# Altium footprint library 51.PcbLib: 17 footprints (part 1 of 2)
Each footprint in its own frame and in the unit in brackets; x right, y up, seen from the top. Pads: shape width x height; smd on the part's side, far side on the other; paste and mask are expansions set on the pad; w line width, h text height; cw(c..) or ccw(c..) is an arc to the next point about the centre after c.
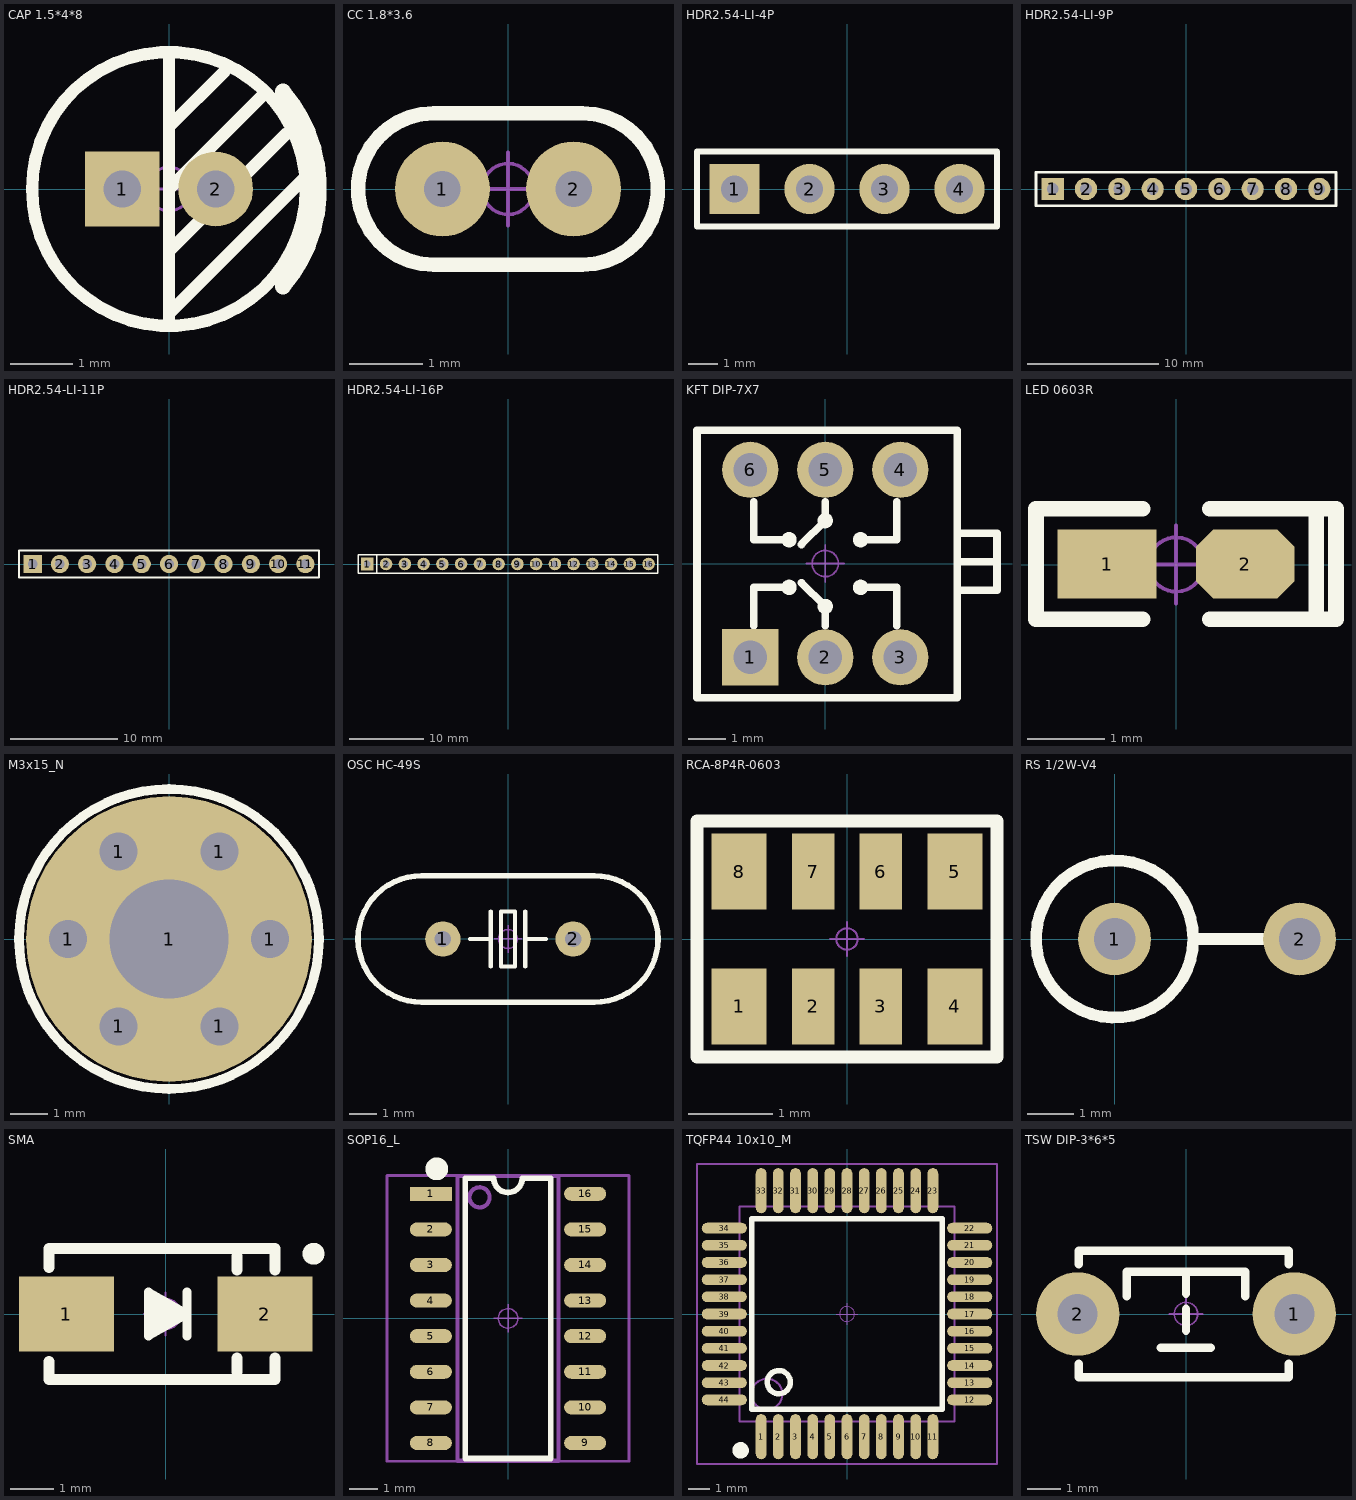
[diagram p0: the footprints below, top view; thin cyan lines are the x and y axes]

## CAP 1.5*4*8 [mm] "脚距1.5mm直径4mm高度8mm                    淘宝ID:黄晶宝石"
pads (2):
  rect 1.2x1.2 hole 0.6: 1(-0.75,0)
  round 1.2 hole 0.6: 2(0.75,0)
Top Overlay:
  circle w0.2: c0,0 r2.2
  lines w0.2: 0,-2.159 0,-2 ; 0,-1 1.897,0.897 ; 0,0 1.524,1.524 ; 0,1 0.897,1.897 ; 0,2.159 0,-2 ; 2.206,0.207 0,-2
  lines w0.254: 1.83,-1.568 ccw(c0,0) 1.83,1.568
Mechanical 15:
  circle w0.05: c0,0 r0.35
  lines w0.05: -0.5,0 0.5,0 ; 0,-0.5 0,0.5
3D body "CAP 1.5X4X8.STEP": height 8.04, standoff -3.46, extent -2,-1.999 2.02,1.999

## CC 1.8*3.6 [mm] "脚距1.8mm直径3.6mm      淘宝ID:黄晶宝石"
pads (2):
  round 1.3 hole 0.5: 1(-0.9,0) 2(0.9,0)
Top Overlay:
  lines w0.2: -1.016,-1.041 cw(c-1.016,0) -1.016,1.041 1.016,1.041 cw(c1.016,0) 1.016,-1.041 -1.016,-1.041
Mechanical 15:
  circle w0.05: c0,0 r0.35
  lines w0.05: -0.5,0 0.5,0 ; 0,-0.5 0,0.5
3D body "CC 1.8X3.6.STEP": height 3.6, standoff -3.5, extent -1.8,-0.798 1.8,0.796

## HDR2.54-LI-4P [mm] "排针，4脚"
pads (4):
  rect 1.7x1.7 hole 0.9: 1(-3.81,0)
  round 1.7 hole 0.9: 2(-1.27,0) 3(1.27,0) 4(3.81,0)
Top Overlay:
  lines w0.2: -5.08,-1.27 -5.08,1.27 5.08,1.27 5.08,-1.27 -5.08,-1.27
3D body "HDR2.54-1P.STEP": height 8.5, standoff -3, extent -5.08,-1.27 -2.54,1.27
3D body "HDR2.54-1P.STEP": height 8.5, standoff -3, extent -2.54,-1.27 0,1.27
3D body "HDR2.54-1P.STEP": height 8.5, standoff -3, extent 0,-1.27 2.54,1.27
3D body "HDR2.54-1P.STEP": height 8.5, standoff -3, extent 2.54,-1.27 5.08,1.27

## HDR2.54-LI-9P [mm] "排针，9脚"
pads (9):
  rect 1.7x1.7 hole 0.9: 1(-10.16,0)
  round 1.7 hole 0.9: 2(-7.62,0) 3(-5.08,0) 4(-2.54,0) 5(0,0) 6(2.54,0) 7(5.08,0) 8(7.62,0) 9(10.16,0)
Top Overlay:
  lines w0.2: -11.43,-1.27 -11.43,1.27 11.43,1.27 11.43,-1.27 -11.43,-1.27
3D body "HDR2.54-1P.STEP": height 8.5, standoff -3, extent -8.89,-1.27 -6.35,1.27
3D body "HDR2.54-1P.STEP": height 8.5, standoff -3, extent -11.43,-1.27 -8.89,1.27
3D body "HDR2.54-1P.STEP": height 8.5, standoff -3, extent -3.81,-1.27 -1.27,1.27
3D body "HDR2.54-1P.STEP": height 8.5, standoff -3, extent -6.35,-1.27 -3.81,1.27
3D body "HDR2.54-1P.STEP": height 8.5, standoff -3, extent -1.27,-1.27 1.27,1.27
3D body "HDR2.54-1P.STEP": height 8.5, standoff -3, extent 3.81,-1.27 6.35,1.27
3D body "HDR2.54-1P.STEP": height 8.5, standoff -3, extent 1.27,-1.27 3.81,1.27
3D body "HDR2.54-1P.STEP": height 8.5, standoff -3, extent 8.89,-1.27 11.43,1.27
3D body "HDR2.54-1P.STEP": height 8.5, standoff -3, extent 6.35,-1.27 8.89,1.27

## HDR2.54-LI-11P [mm] "排针"
pads (11):
  rect 1.7x1.7 hole 0.9: 1(-12.7,0)
  round 1.7 hole 0.9: 2(-10.16,0) 3(-7.62,0) 4(-5.08,0) 5(-2.54,0) 6(0,0) 7(2.54,0) 8(5.08,0) 9(7.62,0) 10(10.16,0) 11(12.7,0)
Top Overlay:
  lines w0.2: -13.97,-1.27 -13.97,1.27 13.97,1.27 13.97,-1.27 -13.97,-1.27
3D body "HDR2.54-1P.STEP": height 8.5, standoff -3, extent 11.43,-1.27 13.97,1.27
3D body "HDR2.54-1P.STEP": height 8.5, standoff -3, extent 8.89,-1.27 11.43,1.27
3D body "HDR2.54-1P.STEP": height 8.5, standoff -3, extent 3.81,-1.27 6.35,1.27
3D body "HDR2.54-1P.STEP": height 8.5, standoff -3, extent 6.35,-1.27 8.89,1.27
3D body "HDR2.54-1P.STEP": height 8.5, standoff -3, extent -1.27,-1.27 1.27,1.27
3D body "HDR2.54-1P.STEP": height 8.5, standoff -3, extent 1.27,-1.27 3.81,1.27
3D body "HDR2.54-1P.STEP": height 8.5, standoff -3, extent -3.81,-1.27 -1.27,1.27
3D body "HDR2.54-1P.STEP": height 8.5, standoff -3, extent -8.89,-1.27 -6.35,1.27
3D body "HDR2.54-1P.STEP": height 8.5, standoff -3, extent -6.35,-1.27 -3.81,1.27
3D body "HDR2.54-1P.STEP": height 8.5, standoff -3, extent -13.97,-1.27 -11.43,1.27
3D body "HDR2.54-1P.STEP": height 8.5, standoff -3, extent -11.43,-1.27 -8.89,1.27

## HDR2.54-LI-16P [mm] "排针，16脚"
pads (16):
  rect 1.7x1.7 hole 0.9: 1(-19.05,0)
  round 1.7 hole 0.9: 2(-16.51,0) 3(-13.97,0) 4(-11.43,0) 5(-8.89,0) 6(-6.35,0) 7(-3.81,0) 8(-1.27,0) 9(1.27,0) 10(3.81,0) 11(6.35,0) 12(8.89,0) 13(11.43,0) 14(13.97,0) 15(16.51,0) 16(19.05,0)
Top Overlay:
  lines w0.2: -17.8,-1.25 -17.8,1.25 ; -20.32,-1.27 -20.32,1.27 -18.415,1.27 20.32,1.27 20.32,-1.27 -20.32,-1.27
3D body "HDR2.54-1P.STEP": height 8.5, standoff -3, extent -15.24,-1.27 -12.7,1.27
3D body "HDR2.54-1P.STEP": height 8.5, standoff -3, extent -17.78,-1.27 -15.24,1.27
3D body "HDR2.54-1P.STEP": height 8.5, standoff -3, extent -10.16,-1.27 -7.62,1.27
3D body "HDR2.54-1P.STEP": height 8.5, standoff -3, extent -12.7,-1.27 -10.16,1.27
3D body "HDR2.54-1P.STEP": height 8.5, standoff -3, extent -7.62,-1.27 -5.08,1.27
3D body "HDR2.54-1P.STEP": height 8.5, standoff -3, extent -2.54,-1.27 0,1.27
3D body "HDR2.54-1P.STEP": height 8.5, standoff -3, extent -5.08,-1.27 -2.54,1.27
3D body "HDR2.54-1P.STEP": height 8.5, standoff -3, extent 2.54,-1.27 5.08,1.27
3D body "HDR2.54-1P.STEP": height 8.5, standoff -3, extent 0,-1.27 2.54,1.27
3D body "HDR2.54-1P.STEP": height 8.5, standoff -3, extent 5.08,-1.27 7.62,1.27
3D body "HDR2.54-1P.STEP": height 8.5, standoff -3, extent 10.16,-1.27 12.7,1.27
3D body "HDR2.54-1P.STEP": height 8.5, standoff -3, extent 7.62,-1.27 10.16,1.27
3D body "HDR2.54-1P.STEP": height 8.5, standoff -3, extent 15.24,-1.27 17.78,1.27
3D body "HDR2.54-1P.STEP": height 8.5, standoff -3, extent 12.7,-1.27 15.24,1.27
3D body "HDR2.54-1P.STEP": height 8.5, standoff -3, extent 17.78,-1.27 20.32,1.27
3D body "HDR2.54-1P.STEP": height 8.5, standoff -3, extent -20.32,-1.27 -17.78,1.27

## KFT DIP-7X7 [mm] "自锁开关，规格：7*7mm      淘宝ID:黄晶宝石"
pads (6):
  rect 1.5x1.5 hole 0.9: 1(-2,-2.5)
  round 1.5 hole 0.9: 2(0,-2.5) 3(2,-2.5) 4(2,2.5) 5(0,2.5) 6(-2,2.5)
Top Overlay:
  circle w0.254: c0.94,-0.635 r0.076
  circle w0.254: c-0.965,-0.635 r0.076
  circle w0.254: c0,-1.143 r0.076
  circle w0.254: c0,1.143 r0.076
  circle w0.254: c-0.965,0.635 r0.076
  circle w0.254: c0.94,0.635 r0.076
  lines w0.203: -1.905,-1.651 -1.905,-0.635 -0.889,-0.635 ; -1.905,1.651 -1.905,0.635 -0.889,0.635 ; -0.635,-0.508 0,-1.143 0,-1.651 ; -0.635,0.508 0,1.143 0,1.651 ; 1.016,-0.635 1.905,-0.635 1.905,-1.651 ; 1.016,0.635 1.905,0.635 1.905,1.651 ; 3.514,0.05 4.579,0.05 ; 3.563,-0.712 4.579,-0.712 4.579,0.812 3.563,0.812 ; -3.42,-3.581 3.514,-3.581 3.514,2.54 3.514,3.556 -3.42,3.556 -3.42,-3.581
Mechanical 15:
  circle w0.05: c0,0 r0.35
  lines w0.05: -0.5,0 0.5,0 ; 0,-0.5 0,0.5
3D body "SLSW 7x7.STEP": height 11.2, standoff -3.2, extent -3.5,-3.5 3.5,3.5

## LED 0603R [mil] "红色0603LED                                           淘宝ID:黄晶宝石"
pads (2):
  rect 50x35 smd: 1(-35,0.26)
  oct 50x35 smd: 2(35,0.26)
Top Overlay:
  lines w8: -17,-27.74 -71,-27.74 -71,-25.74 -71,28.26 -70,28.26 -17,28.26 ; 17,-27.74 70,-27.74 ; 17,28.26 71,28.26 81,28.26 81,-27.74 71,-27.74 71,26.26
Mechanical 15:
  circle w1.97: c0,0 r13.78
  lines w1.97: -19.69,0 19.68,0 ; 0,-19.69 0,19.68
3D body "LED 0603-R.STEP": height 18.36, standoff -0.16, extent -31.5,-15.79 31.5,15.79

## M3x15_N [mil] "M3铜柱，长：15mm"
pads (7):
  round 40 hole 40: 1(-106,0) 1(-53,-91.8) 1(-53,91.8) 1(53,-91.8) 1(53,91.8) 1(106,0)
  round 300 hole 125: 1(0,0)
Top Overlay:
  circle w10: c0,0 r157.48
3D body "M3x15.STEP": height 592.53, standoff 1.96, extent -106.22,-92.52 106.22,92.52

## OSC HC-49S [mm] "封装库来自淘宝卖家 ID：黄晶宝石"
pads (2):
  round 1.3 hole 0.6: 1(-2.4,0) 2(2.4,0)
Top Overlay:
  lines w0.152: -1.397,0 -0.635,0 ; -0.635,-1.016 -0.635,1.016 ; 0.635,-1.016 0.635,1.016 ; 0.635,0 1.397,0 ; -0.254,-1.016 0.254,-1.016 0.254,1.016 -0.254,1.016 -0.254,-1.016
  lines w0.203: -3.175,2.325 ccw(c-3.2,0) -3.173,-2.325 3.175,-2.325 ccw(c3.2,0) 3.173,2.325 -3.175,2.325
Mechanical 15:
  circle w0.05: c0,0 r0.35
  lines w0.05: -0.5,0 0.5,0 ; 0,-0.5 0,0.5
3D body "OSC HC-49S.STEP": height 4.13, standoff -3.45, extent -5.525,-2.325 5.525,2.325

## RCA-8P4R-0603 [mm] "3.2mm*1.6mm*0.6mm(长*宽*厚)"
pads (8):
  rect 0.65x0.9 smd: 1(-1.28,-0.8) 4(1.28,-0.8) 5(1.28,0.8) 8(-1.28,0.8)
  rect 0.5x0.9 smd: 2(-0.4,-0.8) 3(0.4,-0.8) 6(0.4,0.8) 7(-0.4,0.8)
Top Overlay:
  lines w0.152: -1.778,-1.397 -1.778,1.397 1.778,1.397 1.778,-1.397 -1.778,-1.397
Mechanical 15:
  circle w0.025: c0,0 r0.127
  lines w0.025: -0.2,0 0.2,0 ; 0,-0.2 0,0.2
3D body "RCA-8P4R-0603.STEP": height 0.6, standoff 0, extent -1.6,-0.8 1.6,0.8

## RS 1/2W-V4 [mil] "直插色环电阻，脚距4mm，直径3mm"
pads (2):
  round 62 hole 35.43: 1(0,0) 2(157.48,0)
Top Overlay:
  circle w10: c0,0 r66.93
  lines w10: 66.93,0 133.86,0
Mechanical 15:
  circle w1.97: c0,0 r13.78
  lines w1.97: -19.69,0 19.68,0 ; 0,-19.69 0,19.68
3D body "RS 1-2W-V4.STEP": height 423.17, standoff -137.89, extent -59.44,-59.44 167.33,59.46

## SMA [mm] "4.5x2.6*2.2mm（长宽高，不包括引脚）"
height 2.54
pads (2):
  rect 2.2x1.75 smd: 1(-2.3,0) 2(2.3,0)
Top Overlay:
  circle w0.254: c3.429,1.397 r0.127
  lines w0.203: 0.494,-0.508 0.494,0.508 ; -0.395,-0.508 -0.395,0.508 0.494,0 -0.395,-0.508
  lines w0.254: -2.7,-1.105 -2.7,-1.524 2.54,-1.524 2.54,-1.016 ; -2.7,1.08 -2.7,1.524 2.54,1.524 2.54,1.016 ; -0.33,0.305 0.305,0 -0.254,-0.305 -0.254,0.051 0.023,0 ; 1.651,-1.35 1.651,-1.016 ; 1.651,1.016 1.651,1.35
Mechanical 15:
  circle w0.05: c0,0 r0.35
  lines w0.05: -0.5,0 0.5,0 ; 0,-0.5 0,0.5
3D body "SMA.STEP": height 2.15, standoff 0.04, extent -2.528,-1.3 2.575,1.3

## SOP16_L [mm] "10.3*6.2*1.8mm（长宽高）封装库来自淘宝卖家 ID：黄晶宝石"
height 1.75
pads (16):
  rect 1.5x0.5 smd: 1(-2.752,4.445)
  oval 1.5x0.5 smd: 2(-2.752,3.175) 3(-2.752,1.905) 4(-2.752,0.635) 5(-2.752,-0.635) 6(-2.752,-1.905) 7(-2.752,-3.175) 8(-2.752,-4.445) 9(2.752,-4.445) 10(2.752,-3.175) 11(2.752,-1.905) 12(2.752,-0.635) 13(2.752,0.635) 14(2.752,1.905) 15(2.752,3.175) 16(2.752,4.445)
Top Overlay:
  circle w0.5: c-2.54,5.334 r0.155
  lines w0.2: -1.524,5 -1.524,-5 1.524,-5 1.524,5
  lines w0.203: -1.524,5 -0.508,5 ccw(c0,5) 0,4.492 ccw(c0,5) 0.508,5 1.524,5
Mechanical 13:
  circle w0.15: c-1.016,4.318 r0.359
  lines w0.15: -1.8,-5.08 1.8,-5.08 1.8,5.08 -1.8,5.08 -1.8,-5.08
Mechanical 15:
  circle w0.05: c0,0 r0.35
  lines w0.05: -0.5,0 0.5,0 ; 0,-0.5 0,0.5
  lines w0.1: -4.318,-5.1 -4.318,5.1 4.318,5.1 4.318,-5.1 -4.318,-5.1
3D body "SOP16.STEP": height 1.9, standoff 0, extent -3.003,-5 3.003,5

## TQFP44 10x10_M [mm] "44脚，体宽：10x10mm, 脚距：0.8mm"
pads (44):
  oval 0.5x2.1 smd: 1(-4,-5.715) 2(-3.2,-5.715) 3(-2.4,-5.715) 4(-1.6,-5.715) 5(-0.8,-5.715) 6(0,-5.715) 7(0.8,-5.715) 8(1.6,-5.715) 9(2.4,-5.715) 10(3.2,-5.715) 11(4,-5.715) 23(4,5.74) 24(3.2,5.74) 25(2.4,5.74) 26(1.6,5.74) 27(0.8,5.74) 28(0,5.74) 29(-0.8,5.74) 30(-1.6,5.74) 31(-2.4,5.74) 32(-3.2,5.74) 33(-4,5.74)
  oval 2.1x0.5 smd: 12(5.715,-4) 13(5.715,-3.2) 14(5.715,-2.4) 15(5.715,-1.6) 16(5.715,-0.8) 17(5.715,0) 18(5.715,0.8) 19(5.715,1.6) 20(5.715,2.4) 21(5.715,3.2) 22(5.715,4) 34(-5.715,4) 35(-5.715,3.2) 36(-5.715,2.4) 37(-5.715,1.6) 38(-5.715,0.8) 39(-5.715,0) 40(-5.715,-0.8) 41(-5.715,-1.6) 42(-5.715,-2.4) 43(-5.715,-3.2) 44(-5.715,-4)
Top Overlay:
  circle w0.254: c-3.175,-3.175 r0.539
  circle w0.508: c-4.953,-6.35 r0.127
  lines w0.254: -4.445,-4.445 4.445,-4.445 4.445,4.445 -4.445,4.445 -4.445,-4.445
Mechanical 13:
  circle w0.1: c-3.73,-3.73 r0.718
  lines w0.1: -5,-5 5,-5 5,5 -5,5 -5,-5
Mechanical 15:
  circle w0.05: c0,0 r0.35
  lines w0.05: -0.5,0 0.5,0 ; 0,-0.5 0,0.5
  lines w0.1: -6.985,-6.985 6.985,-6.985 6.985,6.985 -6.985,6.985 -6.985,-6.985
3D body "TQFP44 10x10.STEP": height 1.05, standoff -0.01, extent -6.002,-6.002 6.002,6.002

## TSW DIP-3*6*5 [mm] "3*6*5mm            淘宝ID:黄晶宝石"
pads (2):
  round 2.5 hole 1.2: 1(3.25,0) 2(-3.25,0)
Top Overlay:
  lines w0.254: -3.212,-1.499 -3.212,-1.9 3.088,-1.9 3.088,-1.499 ; -3.212,1.499 -3.212,1.9 3.088,1.9 3.088,1.499 ; -1.778,0.533 -1.778,1.27 1.778,1.27 1.778,0.533 ; -0.762,-1.016 0.737,-1.016 ; 0,-0.508 0,0.152 ; 0,0.61 0,1.27
Mechanical 15:
  circle w0.05: c0,0 r0.35
  lines w0.05: -0.5,0 0.5,0 ; 0,-0.5 0,0.5
3D body "TSW DIP-3x6x5.STEP": height 5.01, standoff -3.49, extent -3.914,-1.75 3.914,1.75